# EAGLE library part SN74HC14SMD (library hexInverterSMD)
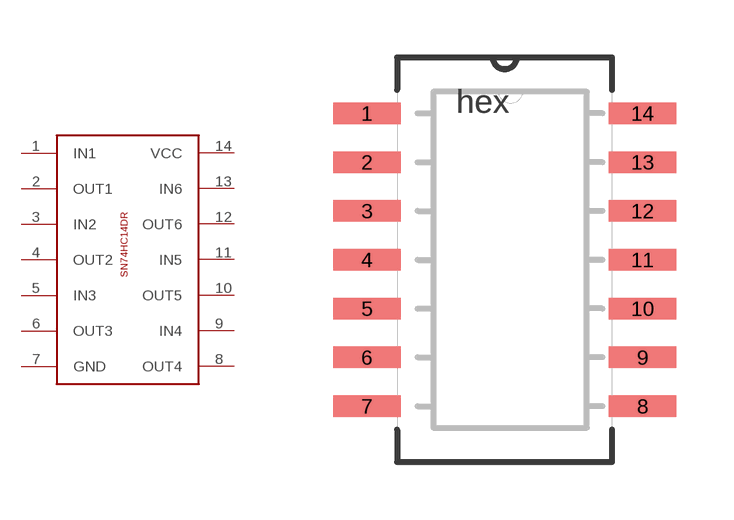
[diagram p0: symbol with the pads of SOIC14; footprint SOIC14]

Designator prefix -

## SN74HC14SMD  [SOIC14]
1  IN1
2  OUT1
3  IN2
4  OUT2
5  IN3
6  OUT3
7  GND
8  OUT4
9  IN4
10  OUT5
11  IN5
12  OUT6
13  IN6
14  VCC

## Footprint SOIC14 (pad centres in mm)
smd 1.753 x 0.559: 1 -3.581,3.81; 2 -3.581,2.54; 3 -3.581,1.27; 4 -3.581,0; 5 -3.581,-1.27; 6 -3.581,-2.54; 7 -3.581,-3.81; 8 3.581,-3.81; 9 3.581,-2.54; 10 3.581,-1.27; 11 3.581,0; 12 3.581,1.27; 13 3.581,2.54; 14 3.581,3.81